# EAGLE library part D__7SEGMENT_LC204VL (library ++Bedrahtet)
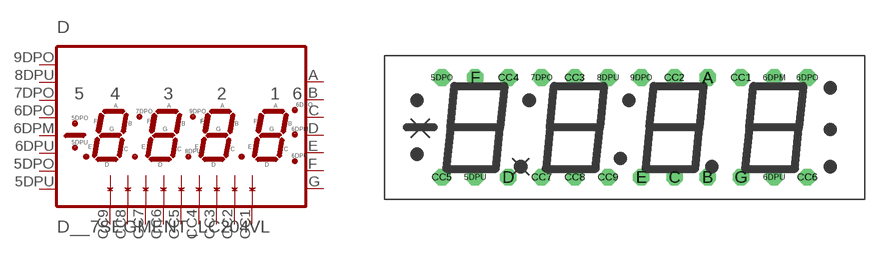
[diagram p23: symbol with the pads of 7-SEG-LC204VL; footprint 7-SEG-LC204VL]

Designator prefix D

## D__7SEGMENT_LC204VL  [7-SEG-LC204VL]
5DPO  5DPO  pas
5DPU  5DPU  pas
6DPM  6DPM  pas
6DPO  6DPO  pas
6DPU  6DPU  pas
7DPO  7DPO  pas
8DPU  8DPU  pas
9DPO  9DPO  pas
A  A  pas
B  B  pas
C  C  pas
CC1  CC1  pas
CC2  CC2  pas
CC3  CC3  pas
CC4  CC4  pas
CC5  CC5  pas
CC6  CC6  pas
CC7  CC7  pas
CC8  CC8  pas
CC9  CC9  pas
D  D  pas
E  E  pas
F  F  pas
G  G  pas

## Footprint 7-SEG-LC204VL (pad centres in mm)
drill 0.6 pad 1.27 octagon: 5DPO -13.97,3.81; 5DPU -11.43,-3.81; 6DPM 11.43,3.81; 6DPO 13.97,3.81; 6DPU 11.43,-3.81; 7DPO -6.35,3.81; 8DPU -1.27,3.81; 9DPO 1.27,3.81; A 6.35,3.81; B 6.35,-3.81; C 3.81,-3.81; CC1 8.89,3.81; CC2 3.81,3.81; CC3 -3.81,3.81; CC4 -8.89,3.81; CC5 -13.97,-3.81; CC6 13.97,-3.81; CC7 -6.35,-3.81; CC8 -3.81,-3.81; CC9 -1.27,-3.81; D -8.89,-3.81; E 1.27,-3.81; F -11.43,3.81; G 8.89,-3.81